# Altium footprint library pathfinder_pcb.PcbLib: 35 footprints (part 2 of 3)
Each footprint in its own frame and in the unit in brackets; x right, y up, seen from the top. Pads: shape width x height; smd on the part's side, far side on the other; paste and mask are expansions set on the pad; w line width, h text height; cw(c..) or ccw(c..) is an arc to the next point about the centre after c.
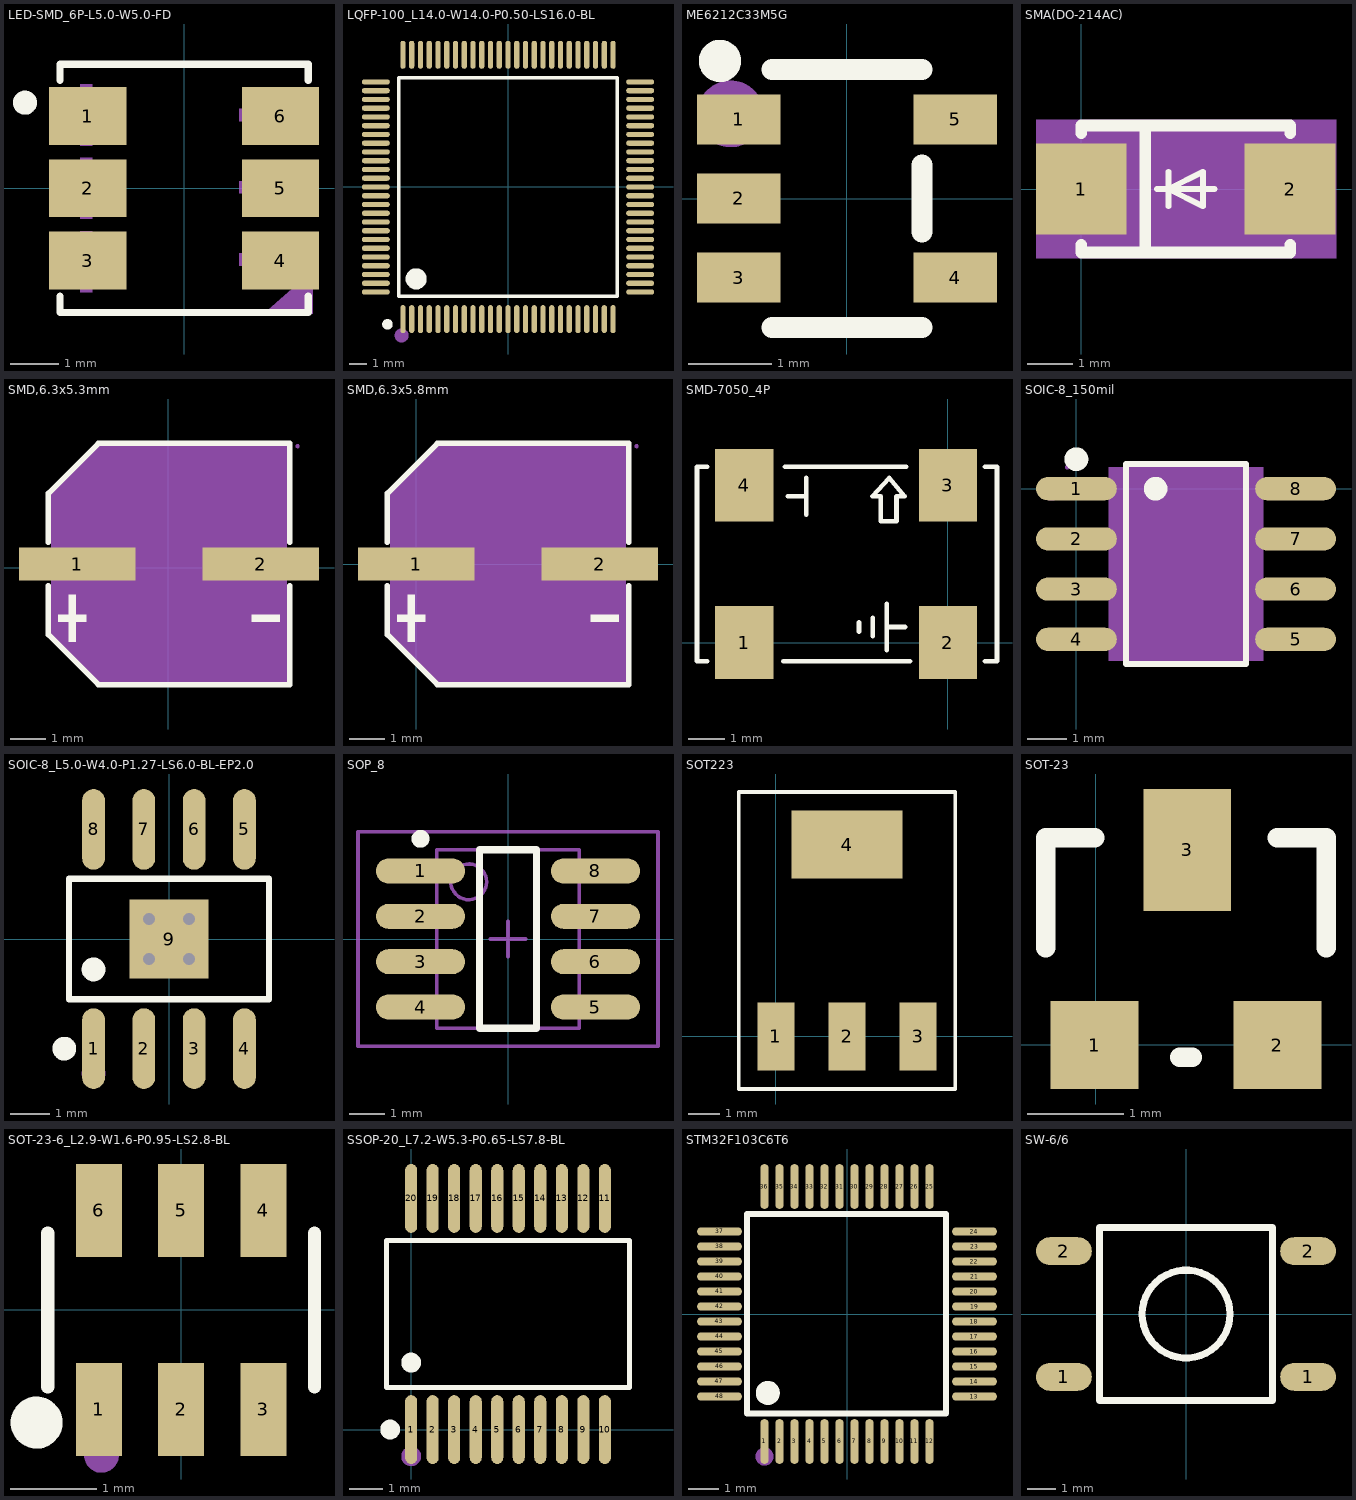
[diagram p1: the footprints below, top view; thin cyan lines are the x and y axes]

## LED-SMD_6P-L5.0-W5.0-FD [mm]
pads (6):
  rect 1.6x1.2 smd: 1(-2.001,1.5) 2(-2.001,0) 3(-2.001,-1.5) 4(2.001,-1.5) 5(2.001,0) 6(2.001,1.5)
Top Overlay:
  circle w0.25: c-3.302,1.778 r0.125
  lines w0.152: -2.576,-2.239 -2.576,-2.576 2.576,-2.576 2.576,-2.239 ; -2.576,2.239 -2.576,2.576 2.576,2.576 2.576,2.239
Mechanical 15:
  region: 1.143,-1.349 2.667,-1.349 2.667,-1.476 2.667,-1.603 1.143,-1.603
  region: 1.143,0.151 2.667,0.151 2.667,0.024 2.667,-0.103 1.143,-0.103
  region: 1.143,1.651 2.667,1.651 2.667,1.524 2.667,1.397 1.143,1.397
  region: -2.667,-1.397 -2.159,-1.397 -2.159,-0.889 -1.905,-0.889 -1.905,-1.397 -1.397,-1.397 -1.397,-1.651 -1.905,-1.651 -1.905,-2.159 -2.159,-2.159 -2.159,-1.651 -2.667,-1.651 -2.667,-1.524
  region: -2.667,0.127 -2.159,0.127 -2.159,0.635 -1.905,0.635 -1.905,0.127 -1.397,0.127 -1.397,-0.127 -1.905,-0.127 -1.905,-0.635 -2.159,-0.635 -2.159,-0.127 -2.667,-0.127 -2.667,0
  region: -2.667,1.651 -2.159,1.651 -2.159,2.159 -1.905,2.159 -1.905,1.651 -1.397,1.651 -1.397,1.397 -1.905,1.397 -1.905,0.889 -2.159,0.889 -2.159,1.397 -2.667,1.397 -2.667,1.524
  region: 2.667,-1.714 2.667,-2.603 1.651,-2.603

## LQFP-100_L14.0-W14.0-P0.50-LS16.0-BL [mm]
pads (100):
  oval 0.3x1.6 smd: 1(-6,-7.55) 2(-5.5,-7.55) 3(-5,-7.55) 4(-4.5,-7.55) 5(-4,-7.55) 6(-3.5,-7.55) 7(-3,-7.55) 8(-2.5,-7.55) 9(-2,-7.55) 10(-1.5,-7.55) 11(-1,-7.55) 12(-0.5,-7.55) 13(0,-7.55) 14(0.5,-7.55) 15(1,-7.55) 16(1.5,-7.55) 17(2,-7.55) 18(2.5,-7.55) 19(3,-7.55) 20(3.5,-7.55) 21(4,-7.55) 22(4.5,-7.55) 23(5,-7.55) 24(5.5,-7.55) 25(6,-7.55) 51(6,7.55) 52(5.5,7.55) 53(5,7.55) 54(4.5,7.55) 55(4,7.55) 56(3.5,7.55) 57(3,7.55) 58(2.5,7.55) 59(2,7.55) 60(1.5,7.55) 61(1,7.55) 62(0.5,7.55) 63(0,7.55) 64(-0.5,7.55) 65(-1,7.55) 66(-1.5,7.55) 67(-2,7.55) 68(-2.5,7.55) 69(-3,7.55) 70(-3.5,7.55) 71(-4,7.55) 72(-4.5,7.55) 73(-5,7.55) 74(-5.5,7.55) 75(-6,7.55)
  oval 1.6x0.3 smd: 26(7.55,-6) 27(7.55,-5.5) 28(7.55,-5) 29(7.55,-4.5) 30(7.55,-4) 31(7.55,-3.5) 32(7.55,-3) 33(7.55,-2.5) 34(7.55,-2) 35(7.55,-1.5) 36(7.55,-1) 37(7.55,-0.5) 38(7.55,0) 39(7.55,0.5) 40(7.55,1) 41(7.55,1.5) 42(7.55,2) 43(7.55,2.5) 44(7.55,3) 45(7.55,3.5) 46(7.55,4) 47(7.55,4.5) 48(7.55,5) 49(7.55,5.5) 50(7.55,6) 76(-7.55,6) 77(-7.55,5.5) 78(-7.55,5) 79(-7.55,4.5) 80(-7.55,4) 81(-7.55,3.5) 82(-7.55,3) 83(-7.55,2.5) 84(-7.55,2) 85(-7.55,1.5) 86(-7.55,1) 87(-7.55,0.5) 88(-7.55,0) 89(-7.55,-0.5) 90(-7.55,-1) 91(-7.55,-1.5) 92(-7.55,-2) 93(-7.55,-2.5) 94(-7.55,-3) 95(-7.55,-3.5) 96(-7.55,-4) 97(-7.55,-4.5) 98(-7.55,-5) 99(-7.55,-5.5) 100(-7.55,-6)
Top Overlay:
  lines w0.2: -6.25,-6.25 -6.25,6.25 6.25,6.25 6.25,-6.25 -6.25,-6.25
  lines w0.3: -6.883,-7.696 ccw(c-6.882,-7.846) -6.881,-7.696
  lines w0.6: -5.25,-4.95 ccw(c-5.248,-5.25) -5.245,-4.95
Top Paste:
  drawing of 100 lines, arcs and shapes, not listed
Mechanical 15:
  circle w0.4: c-6.071,-8.484 r0.2

## ME6212C33M5G [mm]
pads (5):
  rect 1x0.6 smd: 1(-1.3,0.95) 2(-1.3,0) 3(-1.3,-0.95) 4(1.3,-0.95) 5(1.3,0.95)
Top Overlay:
  circle w0.254: c-1.524,1.651 r0.127
  lines w0.254: -0.9,-1.55 0.9,-1.55 ; -0.9,1.55 0.9,1.55 ; 0.9,-0.4 0.9,0.4
Mechanical 15:
  circle w0.4: c-1.397,1.016 r0.2

## SMA(DO-214AC) [mm]
pads (2):
  rect 2x2 smd: 1(0,0) 2(4.6,0)
Top Overlay:
  lines w0.127: 1.665,0 2.935,0 ; 1.919,-0.381 1.919,0 ; 1.919,0.381 1.919,0 ; 1.919,0 2.681,-0.381 2.681,0 2.681,0.381 1.919,0
  lines w0.254: 0,-1.231 0,-1.4 4.6,-1.4 4.6,-1.231 ; 0,1.231 0,1.4 4.6,1.4 4.6,1.231 ; 1.411,-1.4 1.411,1.4
Mechanical 4:
  region: -1,1.527 5.613,1.527 5.613,-1.527 -1,-1.527
Mechanical 5:
  region: -1,1 1,1 1,-1 -1,-1
  region: 3.6,1 5.6,1 5.6,-1 3.6,-1
Mechanical 15:
  lines w0.003: 2.281,0.513 2.332,0.564

## SMD,6.3x5.3mm [mm]
pads (2):
  rect 3.26x0.91 smd: 1(-2.554,0.104) 2(2.586,0.104)
Top Overlay:
  region: 3.118,-1.315 3.118,-1.513 2.326,-1.513 2.326,-1.315
  region: -3.086,-1.315 -3.086,-1.513 -2.294,-1.513 -2.294,-1.315
  region: -2.789,-0.754 -2.789,-2.074 -2.591,-2.074 -2.591,-0.754
  lines w0.152: -3.36,-0.504 -3.36,-1.876 -1.964,-3.273 3.393,-3.273 3.393,-0.504 ; -3.36,0.711 -3.36,2.084 -1.964,3.48 3.393,3.48 3.393,0.711
Mechanical 4:
  region: 3.316,3.404 3.316,-3.196 -1.964,-3.196 -3.284,-1.876 -3.284,2.084 -1.964,3.404
Mechanical 5:
  region: 3.616,0.429 3.616,-0.221 1.016,-0.221 1.016,0.429
  region: -3.584,0.429 -3.584,-0.221 -0.984,-0.221 -0.984,0.429
Mechanical 6:
  circle w0.06: c3.616,3.404 r0.03
Mechanical 15:
  region: 3.118,0.203 3.118,0.005 2.326,0.005 2.326,0.203
  region: -3.086,0.203 -3.086,0.005 -2.294,0.005 -2.294,0.203
  region: -2.789,0.764 -2.789,-0.556 -2.591,-0.556 -2.591,0.764

## SMD,6.3x5.8mm [mm]
pads (2):
  rect 3.26x0.91 smd: 1(0,0) 2(5.14,0)
Top Overlay:
  region: -0.235,-0.858 -0.235,-2.178 -0.037,-2.178 -0.037,-0.858
  region: -0.532,-1.419 -0.532,-1.617 0.26,-1.617 0.26,-1.419
  region: 5.672,-1.419 5.672,-1.617 4.88,-1.617 4.88,-1.419
  lines w0.152: -0.806,-0.607 -0.806,-1.98 0.59,-3.376 5.946,-3.376 5.946,-0.607 ; -0.806,0.607 -0.806,1.98 0.59,3.376 5.946,3.376 5.946,0.607
Mechanical 4:
  region: 5.87,3.3 5.87,-3.3 0.59,-3.3 -0.73,-1.98 -0.73,1.98 0.59,3.3
Mechanical 5:
  region: -1.03,0.325 -1.03,-0.325 1.57,-0.325 1.57,0.325
  region: 6.17,0.325 6.17,-0.325 3.57,-0.325 3.57,0.325
Mechanical 6:
  circle w0.06: c6.17,3.3 r0.03
Mechanical 15:
  region: -0.235,0.66 -0.235,-0.66 -0.037,-0.66 -0.037,0.66
  region: -0.532,0.099 -0.532,-0.099 0.26,-0.099 0.26,0.099
  region: 5.672,0.099 5.672,-0.099 4.88,-0.099 4.88,0.099

## SMD-7050_4P [mm]
height 1.6
pads (4):
  rect 1.6x2 smd: 1(-5.588,0) 2(0,0) 3(0,4.318) 4(-5.588,4.318)
Top Overlay:
  lines w0.127: -6.604,-0.508 -6.883,-0.508 -6.883,4.826 -6.604,4.826 ; -4.521,-0.508 -1.041,-0.508 ; -4.47,4.826 -1.143,4.826 ; -4.394,4.013 -3.886,4.013 ; -3.886,3.505 -3.886,4.521 ; -2.438,0.305 -2.438,0.559 ; -2.057,0.178 -2.057,0.686 ; -1.676,-0.203 -1.676,1.067 ; -1.676,0.432 -1.168,0.432 ; 1.016,4.826 1.346,4.826 1.346,-0.508 ; 1.346,-0.508 1.016,-0.508 1.346,-0.508 ; -2.07,4.013 -1.613,4.521 -1.181,4.013 -1.41,4.013 -1.41,3.327 -1.841,3.327 -1.841,4.013 -2.07,4.013

## SOIC-8_150mil [mm]
pads (8):
  oval 2.045x0.588 smd: 1(0,0) 2(0,-1.27) 3(0,-2.54) 4(0,-3.81) 5(5.545,-3.81) 6(5.545,-2.54) 7(5.545,-1.27) 8(5.545,0)
Top Overlay:
  circle w0.3: c0,0.747 r0.15
  circle w0.3: c2.003,0 r0.15
  lines w0.152: 1.251,-4.431 1.251,0.621 4.294,0.621 4.294,-4.431 1.251,-4.431
Mechanical 4:
  region: 0.823,0.545 4.723,0.545 4.723,-4.355 0.823,-4.355
Mechanical 5:
  pour cut-out: 4.948,-3.6 4.713,-3.6 4.713,-4.02 4.948,-4.02
  region: 5.773,-3.6 4.938,-3.6 4.938,-4.02 5.773,-4.02
  pour cut-out: 4.948,-2.33 4.713,-2.33 4.713,-2.75 4.948,-2.75
  region: 5.773,-2.33 4.938,-2.33 4.938,-2.75 5.773,-2.75
  pour cut-out: 4.948,-1.06 4.713,-1.06 4.713,-1.48 4.948,-1.48
  region: 5.773,-1.06 4.938,-1.06 4.938,-1.48 5.773,-1.48
  pour cut-out: 4.948,0.21 4.713,0.21 4.713,-0.21 4.948,-0.21
  region: 5.773,0.21 4.938,0.21 4.938,-0.21 5.773,-0.21
  pour cut-out: 0.598,-3.6 0.833,-3.6 0.833,-4.02 0.598,-4.02
  region: -0.227,-3.6 0.608,-3.6 0.608,-4.02 -0.227,-4.02
  pour cut-out: 0.598,-2.33 0.833,-2.33 0.833,-2.75 0.598,-2.75
  region: -0.227,-2.33 0.608,-2.33 0.608,-2.75 -0.227,-2.75
  pour cut-out: 0.598,-1.06 0.833,-1.06 0.833,-1.48 0.598,-1.48
  region: -0.227,-1.06 0.608,-1.06 0.608,-1.48 -0.227,-1.48
  pour cut-out: 0.598,0.21 0.833,0.21 0.833,-0.21 0.598,-0.21
  region: -0.227,0.21 0.608,0.21 0.608,-0.21 -0.227,-0.21
Mechanical 6:
  circle w0.06: c-0.227,0.545 r0.03
Mechanical 15:
  circle w0.3: c-0.628,0 r0.15

## SOIC-8_L5.0-W4.0-P1.27-LS6.0-BL-EP2.0 [mm]
pads (9):
  oval 0.574x2.038 smd: 1(-1.905,-2.769) 2(-0.635,-2.769) 3(0.635,-2.769) 4(1.905,-2.769) 5(1.905,2.769) 6(0.635,2.769) 7(-0.635,2.769) 8(-1.905,2.769)
  rect 2x2 smd: 9(0,0)
via 0.5,0.5 diameter 0.61 hole 0.305
via -0.5,0.5 diameter 0.61 hole 0.305
via -0.5,-0.5 diameter 0.61 hole 0.305
via 0.5,-0.5 diameter 0.61 hole 0.305
Top Overlay:
  circle w0.3: c-1.905,-0.769 r0.15
  circle w0.3: c-2.644,-2.769 r0.15
  lines w0.152: -2.526,-1.521 -2.526,1.521 2.526,1.521 2.526,-1.521 -2.526,-1.521
Mechanical 15:
  circle w0.3: c-1.905,-3.4 r0.15

## SOP_8 [mm] "SOIC, 8-Leads, Body 5.3x5.4mm (max), Pitch 1.27mm, IPC Medium Density"
height 2.16
pads (8):
  oval 2.5x0.7 smd: 1(-2.45,1.905) 2(-2.45,0.635) 3(-2.45,-0.635) 4(-2.45,-1.905) 5(2.45,-1.905) 6(2.45,-0.635) 7(2.45,0.635) 8(2.45,1.905)
Top Overlay:
  circle w0.25: c-2.45,2.805 r0.125
  lines w0.2: -0.8,-2.5 -0.8,2.5 0.8,2.5 0.8,-2.5 -0.8,-2.5
Mechanical 13:
  circle w0.1: c-1.1,1.6 r0.5
  lines w0.1: -2,-2.5 -2,2.5 2,2.5 2,-2.5 -2,-2.5
Mechanical 15:
  lines w0.1: -0.5,0 0.5,0 ; 0,-0.5 0,0.5 ; -4.2,-3 -4.2,3 4.2,3 4.2,-3 -4.2,-3

## SOT223 [mm]
height 1.6
pads (4):
  rect 1.2x2.2 smd: 1(0,0) 2(2.3,0) 3(4.6,0)
  rect 3.6x2.2 smd: 4(2.3,6.2)
Top Overlay:
  lines w0.127: -1.2,-1.7 5.8,-1.7 5.8,7.9 -1.2,7.9 -1.2,-1.7

## SOT-23 [mil]
pads (3):
  rect 36x36 smd: 1(-0.51,-0.15) 2(74.49,-0.15)
  rect 36x50 smd: 3(37.49,79.85)
Top Overlay:
  lines w8: -20.51,39.85 -20.51,84.85 -0.51,84.85 ; 34.49,-5.15 39.49,-5.15 ; 74.49,84.85 94.49,84.85 94.49,39.85

## SOT-23-6_L2.9-W1.6-P0.95-LS2.8-BL [mm]
pads (6):
  rect 0.532x1.072 smd: 1(-0.95,-1.149) 2(0,-1.149) 3(0.95,-1.149) 4(0.95,1.149) 5(0,1.149) 6(-0.95,1.149)
Top Overlay:
  circle w0.3: c-1.668,-1.301 r0.15
  lines w0.152: -1.539,-0.889 -1.539,0.889 ; 1.539,-0.889 1.539,0.889
Mechanical 15:
  circle w0.2: c-0.92,-1.68 r0.1

## SSOP-20_L7.2-W5.3-P0.65-LS7.8-BL [mm]
pads (20):
  oval 0.364x2.082 smd: 1(0,0) 2(0.65,0) 3(1.3,0) 4(1.95,0) 5(2.6,0) 6(3.25,0) 7(3.9,0) 8(4.55,0) 9(5.2,0) 10(5.85,0) 11(5.85,6.982) 12(5.2,6.982) 13(4.55,6.982) 14(3.9,6.982) 15(3.25,6.982) 16(2.6,6.982) 17(1.95,6.982) 18(1.3,6.982) 19(0.65,6.982) 20(0,6.982)
Top Overlay:
  circle w0.3: c0,2.022 r0.15
  circle w0.3: c-0.634,0 r0.15
  lines w0.152: -0.751,1.27 -0.751,5.712 6.601,5.712 6.601,1.27 -0.751,1.27
Mechanical 15:
  circle w0.3: c0,-0.809 r0.15

## STM32F103C6T6 [mm]
pads (48):
  oval 0.27x1.5 smd: 1(-2.75,-4.25) 2(-2.25,-4.25) 3(-1.75,-4.25) 4(-1.25,-4.25) 5(-0.75,-4.25) 6(-0.25,-4.25) 7(0.25,-4.25) 8(0.75,-4.25) 9(1.25,-4.25) 10(1.75,-4.25) 11(2.25,-4.25) 12(2.75,-4.25) 25(2.75,4.25) 26(2.25,4.25) 27(1.75,4.25) 28(1.25,4.25) 29(0.75,4.25) 30(0.25,4.25) 31(-0.25,4.25) 32(-0.75,4.25) 33(-1.25,4.25) 34(-1.75,4.25) 35(-2.25,4.25) 36(-2.75,4.25)
  oval 1.5x0.27 smd: 13(4.25,-2.75) 14(4.25,-2.25) 15(4.25,-1.75) 16(4.25,-1.25) 17(4.25,-0.75) 18(4.25,-0.25) 19(4.25,0.25) 20(4.25,0.75) 21(4.25,1.25) 22(4.25,1.75) 23(4.25,2.25) 24(4.25,2.75) 37(-4.25,2.75) 38(-4.25,2.25) 39(-4.25,1.75) 40(-4.25,1.25) 41(-4.25,0.75) 42(-4.25,0.25) 43(-4.25,-0.25) 44(-4.25,-0.75) 45(-4.25,-1.25) 46(-4.25,-1.75) 47(-4.25,-2.25) 48(-4.25,-2.75)
Top Overlay:
  lines w0.2: -2.896,3.34 3.302,3.34 3.302,-3.315 -3.327,-3.315 -3.327,3.34 -2.565,3.34
  lines w0.4: -2.641,-2.43 ccw(c-2.64,-2.63) -2.639,-2.43
Mechanical 15:
  circle w0.3: c-2.75,-4.75 r0.15

## SW-6/6 [mm]
pads (4):
  oval 2x1 smd: 1(-4.37,-2.25) 1(4.37,-2.25) 2(-4.37,2.25) 2(4.37,2.25)
Top Overlay:
  circle w0.254: c0.002,-0.002 r1.571
  lines w0.254: -3.1,-3.1 -3.1,3.1 3.1,3.1 3.1,-3.1 -3.1,-3.1